# Altium schematic symbol library SCH - MISC - 1271.1000.SCHLIB: 1 symbol
Pins are listed as number, name and electrical type; pins without a type are passive.

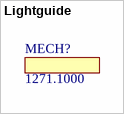
[diagram p0: symbol Lightguide]

## Lightguide
designator MECH?, comment 1271.1000  (no BOM)